# EAGLE library part AT86RF212 (library atmel-wireless)
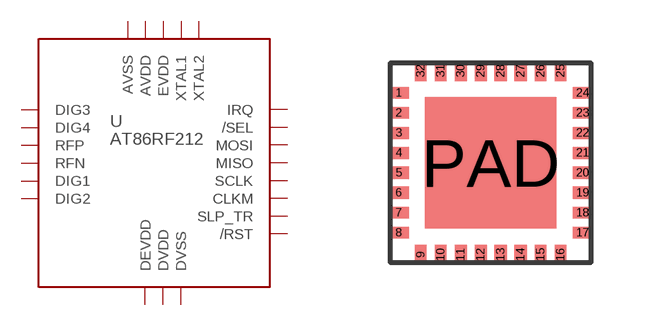
[diagram p0: symbol with the pads of 32QN2; footprint 32QN2]

Designator prefix -

## AT86RF212  [32QN2]
1  DIG3
2  DIG4
3  AVSS
4  RFP
5  RFN
6  AVSS1
7  DVSS
8  /RST
9  DIG1
10  DIG2
11  SLP_TR
12  DVSS1
13  DVDD
14  DVDD1
15  DEVDD
16  DVSS2
17  CLKM
18  DVSS3
19  SCLK
20  MISO
21  DVSS4
22  MOSI
23  /SEL
24  IRQ
25  XTAL2
26  XTAL1
27  AVSS2
28  EVDD
29  AVDD
30  AVSS3
31  AVSS4
32  AVSS5
PAD  AVSSPAD

## Footprint 32QN2 (pad centres in mm)
smd 0.5 x 0.3: 1 -2.3,1.75; 2 -2.3,1.25; 3 -2.3,0.75; 4 -2.3,0.25; 5 -2.3,-0.25; 6 -2.3,-0.75; 7 -2.3,-1.25; 8 -2.3,-1.75; 17 2.3,-1.75; 18 2.3,-1.25; 19 2.3,-0.75; 20 2.3,-0.25; 21 2.3,0.25; 22 2.3,0.75; 23 2.3,1.25; 24 2.3,1.75
smd 0.3 x 0.5: 9 -1.75,-2.3; 10 -1.25,-2.3; 11 -0.75,-2.3; 12 -0.25,-2.3; 13 0.25,-2.3; 14 0.75,-2.3; 15 1.25,-2.3; 16 1.75,-2.3; 25 1.75,2.3; 26 1.25,2.3; 27 0.75,2.3; 28 0.25,2.3; 29 -0.25,2.3; 30 -0.75,2.3; 31 -1.25,2.3; 32 -1.75,2.3
smd 3.3 x 3.3: PAD 0,0